# Altium footprint library National Semiconductor Footprints.PcbLib: 194 footprints (part 1 of 13)
Each footprint in its own frame and in the unit in brackets; x right, y up, seen from the top. Pads: shape width x height; smd on the part's side, far side on the other; paste and mask are expansions set on the pad; w line width, h text height; cw(c..) or ccw(c..) is an arc to the next point about the centre after c.
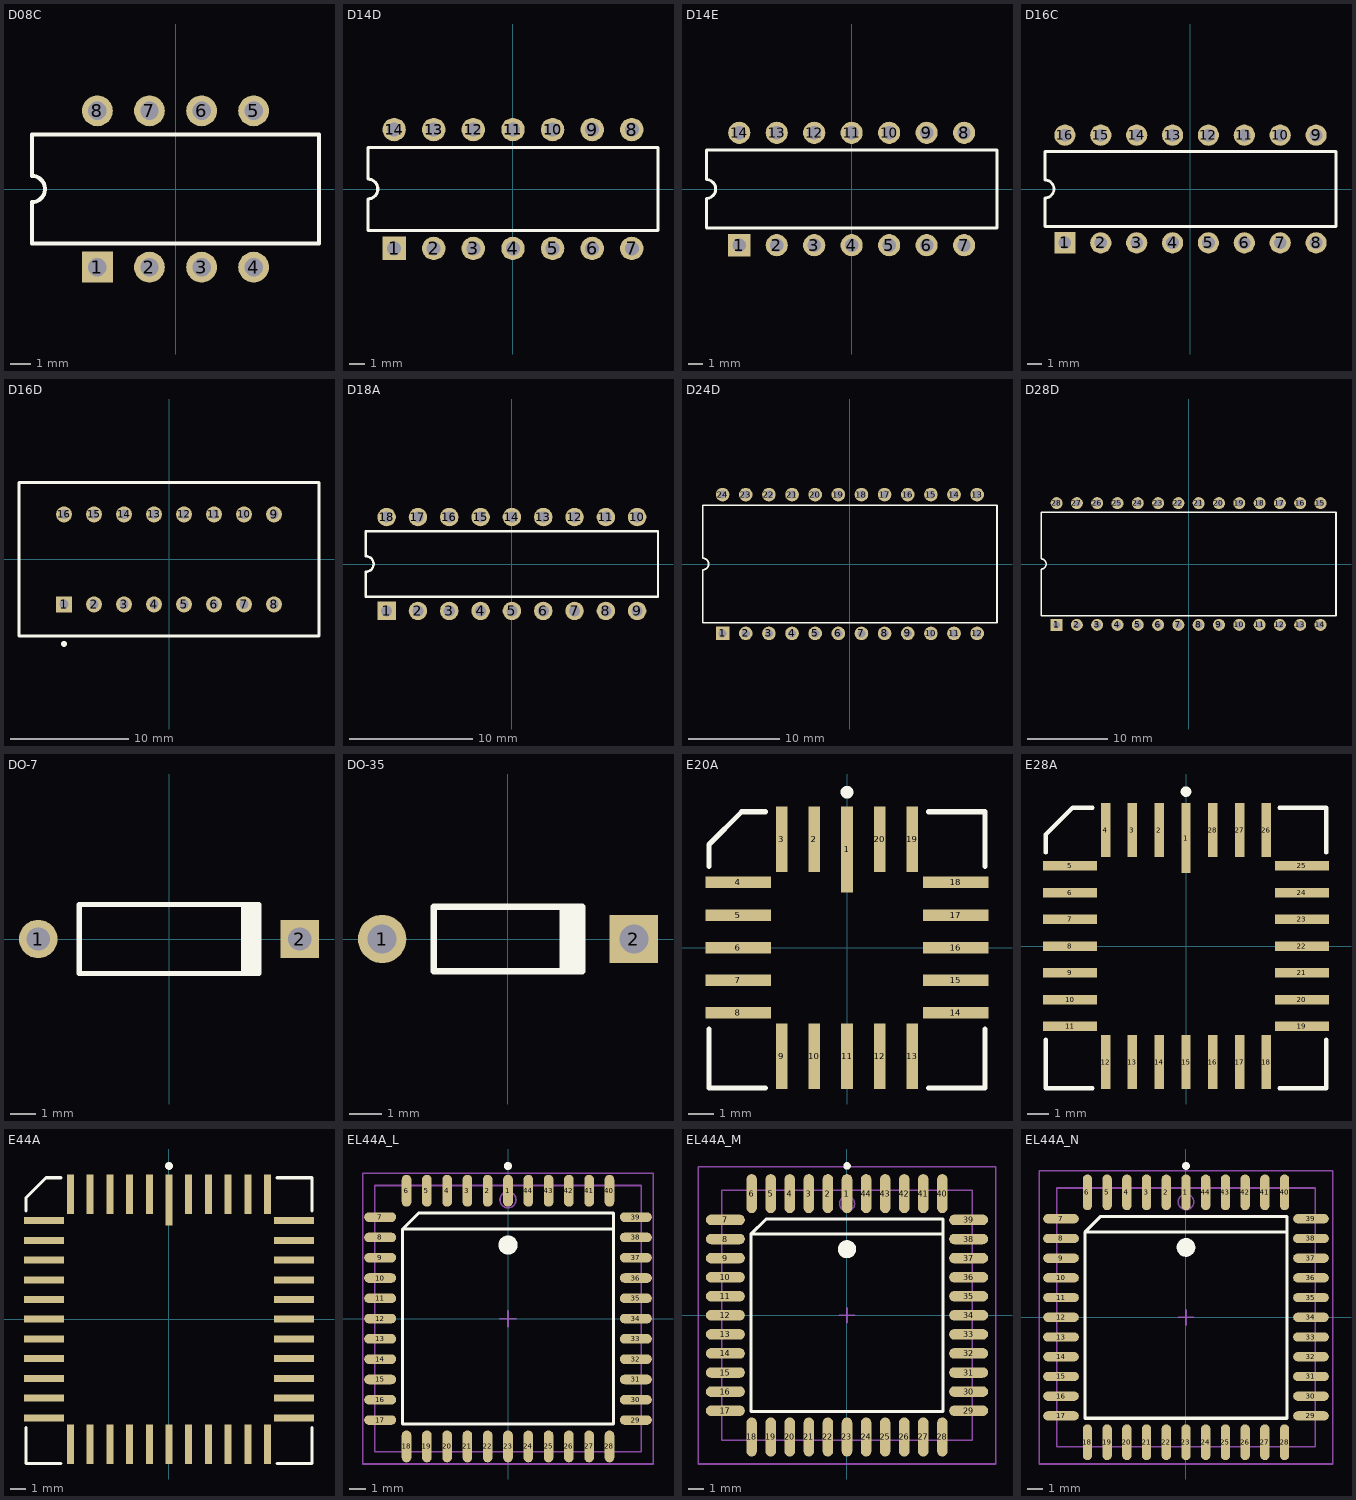
[diagram p0: the footprints below, top view; thin cyan lines are the x and y axes]

## D08C [mm] "DIP; 8 Leads; Row Spacing 7.62 mm; Pitch 2.54 mm"
height 5.33
pads (8):
  rect 1.5x1.5 hole 0.9: 1(-3.81,-3.81)
  round 1.5 hole 0.9: 2(-1.27,-3.81) 3(1.27,-3.81) 4(3.81,-3.81) 5(3.81,3.81) 6(1.27,3.81) 7(-1.27,3.81) 8(-3.81,3.81)
Top Overlay:
  lines w0.2: -7,-2.65 7,-2.65 7,2.65 -7,2.65 -7,0.635 cw(c-7,0) -7,-0.635 -7,-2.65

## D14D [mm] "DIP; 14 Leads; Row Spacing 7.62 mm; Pitch 2.54 mm"
height 5.08
pads (14):
  rect 1.5x1.5 hole 0.9: 1(-7.62,-3.81)
  round 1.5 hole 0.9: 2(-5.08,-3.81) 3(-2.54,-3.81) 4(0,-3.81) 5(2.54,-3.81) 6(5.08,-3.81) 7(7.62,-3.81) 8(7.62,3.81) 9(5.08,3.81) 10(2.54,3.81) 11(0,3.81) 12(-2.54,3.81) 13(-5.08,3.81) 14(-7.62,3.81)
Top Overlay:
  lines w0.2: -9.3,-2.65 9.3,-2.65 9.3,2.65 -9.3,2.65 -9.3,0.635 cw(c-9.3,0) -9.3,-0.635 -9.3,-2.65

## D14E [mm] "DIP; 14 Leads; Row Spacing 7.62 mm; Pitch 2.54 mm"
height 5.08
pads (14):
  rect 1.5x1.5 hole 0.9: 1(-7.62,-3.81)
  round 1.5 hole 0.9: 2(-5.08,-3.81) 3(-2.54,-3.81) 4(0,-3.81) 5(2.54,-3.81) 6(5.08,-3.81) 7(7.62,-3.81) 8(7.62,3.81) 9(5.08,3.81) 10(2.54,3.81) 11(0,3.81) 12(-2.54,3.81) 13(-5.08,3.81) 14(-7.62,3.81)
Top Overlay:
  lines w0.2: -9.85,-2.65 -9.85,-0.635 ccw(c-9.85,0) -9.85,0.635 -9.85,2.65 9.85,2.65 9.85,-2.65 -9.85,-2.65

## D16C [mm] "DIP; 16 Leads; Row Spacing 7.62 mm; Pitch 2.54 mm"
height 4.57
pads (16):
  rect 1.5x1.5 hole 0.9: 1(-8.89,-3.81)
  round 1.5 hole 0.9: 2(-6.35,-3.81) 3(-3.81,-3.81) 4(-1.27,-3.81) 5(1.27,-3.81) 6(3.81,-3.81) 7(6.35,-3.81) 8(8.89,-3.81) 9(8.89,3.81) 10(6.35,3.81) 11(3.81,3.81) 12(1.27,3.81) 13(-1.27,3.81) 14(-3.81,3.81) 15(-6.35,3.81) 16(-8.89,3.81)
Top Overlay:
  lines w0.2: -10.3,-2.65 -10.3,-0.635 ccw(c-10.3,0) -10.3,0.635 -10.3,2.65 10.3,2.65 10.3,-2.65 -10.3,-2.65

## D16D [mm] "DIP; 16 Round Pins; Row Space 7.62 mm; Pitch 2.54 mm"
height 5.08
pads (16):
  rect 1.35x1.35 hole 0.8: 1(-8.89,-3.81)
  round 1.35 hole 0.8: 2(-6.35,-3.81) 3(-3.81,-3.81) 4(-1.27,-3.81) 5(1.27,-3.81) 6(3.81,-3.81) 7(6.35,-3.81) 8(8.89,-3.81) 9(8.89,3.81) 10(6.35,3.81) 11(3.81,3.81) 12(1.27,3.81) 13(-1.27,3.81) 14(-3.81,3.81) 15(-6.35,3.81) 16(-8.89,3.81)
Top Overlay:
  circle w0.25: c-8.89,-7.15 r0.125
  lines w0.25: -12.7,-6.5 -12.7,6.5 12.7,6.5 12.7,-6.5 -12.7,-6.5

## D18A [mm] "DIP; 18 Leads; Row Spacing 7.62 mm; Pitch 2.54 mm"
height 4.58
pads (18):
  rect 1.5x1.5 hole 0.9: 1(-10.16,-3.81)
  round 1.5 hole 0.9: 2(-7.62,-3.81) 3(-5.08,-3.81) 4(-2.54,-3.81) 5(0,-3.81) 6(2.54,-3.81) 7(5.08,-3.81) 8(7.62,-3.81) 9(10.16,-3.81) 10(10.16,3.81) 11(7.62,3.81) 12(5.08,3.81) 13(2.54,3.81) 14(0,3.81) 15(-2.54,3.81) 16(-5.08,3.81) 17(-7.62,3.81) 18(-10.16,3.81)
Top Overlay:
  lines w0.2: -11.85,-2.65 11.85,-2.65 11.85,2.65 -11.85,2.65 -11.85,0.635 cw(c-11.85,0) -11.85,-0.635 -11.85,-2.65

## D24D [mm] "DIP; 24 Leads; Row Spacing 15.24 mm; Pitch 2.54 mm"
height 5.72
pads (24):
  rect 1.5x1.5 hole 0.9: 1(-13.97,-7.62)
  round 1.5 hole 0.9: 2(-11.43,-7.62) 3(-8.89,-7.62) 4(-6.35,-7.62) 5(-3.81,-7.62) 6(-1.27,-7.62) 7(1.27,-7.62) 8(3.81,-7.62) 9(6.35,-7.62) 10(8.89,-7.62) 11(11.43,-7.62) 12(13.97,-7.62) 13(13.97,7.62) 14(11.43,7.62) 15(8.89,7.62) 16(6.35,7.62) 17(3.81,7.62) 18(1.27,7.62) 19(-1.27,7.62) 20(-3.81,7.62) 21(-6.35,7.62) 22(-8.89,7.62) 23(-11.43,7.62) 24(-13.97,7.62)
Top Overlay:
  lines w0.2: -16.15,-6.45 -16.15,-0.635 ccw(c-16.15,0) -16.15,0.635 -16.15,6.45 16.15,6.45 16.15,-6.45 -16.15,-6.45

## D28D [mm] "DIP; 28 Leads; Row Spacing 15.24 mm; Pitch 2.54 mm"
height 4.57
pads (28):
  rect 1.5x1.5 hole 0.9: 1(-16.51,-7.62)
  round 1.5 hole 0.9: 2(-13.97,-7.62) 3(-11.43,-7.62) 4(-8.89,-7.62) 5(-6.35,-7.62) 6(-3.81,-7.62) 7(-1.27,-7.62) 8(1.27,-7.62) 9(3.81,-7.62) 10(6.35,-7.62) 11(8.89,-7.62) 12(11.43,-7.62) 13(13.97,-7.62) 14(16.51,-7.62) 15(16.51,7.62) 16(13.97,7.62) 17(11.43,7.62) 18(8.89,7.62) 19(6.35,7.62) 20(3.81,7.62) 21(1.27,7.62) 22(-1.27,7.62) 23(-3.81,7.62) 24(-6.35,7.62) 25(-8.89,7.62) 26(-11.43,7.62) 27(-13.97,7.62) 28(-16.51,7.62)
Top Overlay:
  lines w0.2: -18.45,-6.45 -18.45,-0.635 ccw(c-18.45,0) -18.45,0.635 -18.45,6.45 18.45,6.45 18.45,-6.45 -18.45,-6.45

## DO-7 [mm] "Diode, Axial; Body 7 x 2.7 mm (LxDia. max), Lead Dia. 0.53 mm (max)"
height 2.7
pads (2):
  round 1.5 hole 0.9: 1(-5.1,0)
  rect 1.5x1.5 hole 0.9: 2(5.1,0)
Top Overlay:
  rectangle: 2.8,-1.35 3.6,1.35
  lines w0.2: 3.5,-1.35 -3.5,-1.35 -3.5,1.35 3.5,1.35

## DO-35 [mm] "Diode, Axial; Body 4.6 x 1.9 mm (LxDia. max), Lead Dia. 0.53 mm (max)"
height 2
pads (2):
  round 1.5 hole 0.9: 1(-3.9,0)
  rect 1.5x1.5 hole 0.9: 2(3.9,0)
Top Overlay:
  rectangle: 1.6,-1 2.4,1
  lines w0.2: 2.3,-1 -2.3,-1 -2.3,1 2.3,1

## E20A [mm] "Leadless Chip Carrier; 20 Terminals; Body 8.9 x 8.9 mm"
height 1.91
pads (20):
  rect 0.45x3.35 smd: 1(0,3.825)
  rect 0.45x2.55 smd: 2(-1.27,4.225) 3(-2.54,4.225) 9(-2.54,-4.225) 10(-1.27,-4.225) 11(0,-4.225) 12(1.27,-4.225) 13(2.54,-4.225) 19(2.54,4.225) 20(1.27,4.225)
  rect 2.55x0.45 smd: 4(-4.225,2.54) 5(-4.225,1.27) 6(-4.225,0) 7(-4.225,-1.27) 8(-4.225,-2.54) 14(4.225,-2.54) 15(4.225,-1.27) 16(4.225,0) 17(4.225,1.27) 18(4.225,2.54)
Top Overlay:
  circle w0.25: c0,6.05 r0.125
  lines w0.2: -5.375,-3.165 -5.375,-5.463 -3.165,-5.463 ; -5.375,3.165 -5.375,4.012 -4.1,5.288 -3.165,5.288 ; 3.165,-5.463 5.375,-5.463 5.375,-3.165 ; 3.165,5.288 5.375,5.288 5.375,3.165

## E28A [mm] "Leadless Chip Carrier; 28 Terminals; Body 11.4 x 11.4 mm"
height 1.87
pads (28):
  rect 0.45x3.3 smd: 1(0,5.125)
  rect 0.45x2.55 smd: 2(-1.27,5.5) 3(-2.54,5.5) 4(-3.81,5.5) 12(-3.81,-5.5) 13(-2.54,-5.5) 14(-1.27,-5.5) 15(0,-5.5) 16(1.27,-5.5) 17(2.54,-5.5) 18(3.81,-5.5) 26(3.81,5.5) 27(2.54,5.5) 28(1.27,5.5)
  rect 2.55x0.45 smd: 5(-5.5,3.81) 6(-5.5,2.54) 7(-5.5,1.27) 8(-5.5,0) 9(-5.5,-1.27) 10(-5.5,-2.54) 11(-5.5,-3.81) 19(5.5,-3.81) 20(5.5,-2.54) 21(5.5,-1.27) 22(5.5,0) 23(5.5,1.27) 24(5.5,2.54) 25(5.5,3.81)
Top Overlay:
  circle w0.25: c0,7.325 r0.125
  lines w0.2: -6.65,-4.435 -6.65,-6.737 -4.435,-6.737 ; -6.65,4.435 -6.65,5.288 -5.375,6.563 -4.435,6.562 ; 4.435,-6.737 6.65,-6.737 6.65,-4.435 ; 4.435,6.562 6.65,6.562 6.65,4.435

## E44A [mm] "Leadless Chip Carrier; 44 Terminals; Body 16.5 x 16.5 mm"
height 1.93
pads (44):
  rect 0.45x3.3 smd: 1(0,7.675)
  rect 0.45x2.55 smd: 2(-1.27,8.05) 3(-2.54,8.05) 4(-3.81,8.05) 5(-5.08,8.05) 6(-6.35,8.05) 18(-6.35,-8.05) 19(-5.08,-8.05) 20(-3.81,-8.05) 21(-2.54,-8.05) 22(-1.27,-8.05) 23(0,-8.05) 24(1.27,-8.05) 25(2.54,-8.05) 26(3.81,-8.05) 27(5.08,-8.05) 28(6.35,-8.05) 40(6.35,8.05) 41(5.08,8.05) 42(3.81,8.05) 43(2.54,8.05) 44(1.27,8.05)
  rect 2.55x0.45 smd: 7(-8.05,6.35) 8(-8.05,5.08) 9(-8.05,3.81) 10(-8.05,2.54) 11(-8.05,1.27) 12(-8.05,0) 13(-8.05,-1.27) 14(-8.05,-2.54) 15(-8.05,-3.81) 16(-8.05,-5.08) 17(-8.05,-6.35) 29(8.05,-6.35) 30(8.05,-5.08) 31(8.05,-3.81) 32(8.05,-2.54) 33(8.05,-1.27) 34(8.05,0) 35(8.05,1.27) 36(8.05,2.54) 37(8.05,3.81) 38(8.05,5.08) 39(8.05,6.35)
Top Overlay:
  circle w0.25: c0,9.875 r0.125
  lines w0.2: -9.2,-6.975 -9.2,-9.287 -6.975,-9.287 ; -9.2,6.975 -9.2,7.838 -7.925,9.113 -6.975,9.112 ; 6.975,-9.287 9.2,-9.287 9.2,-6.975 ; 6.975,9.112 9.2,9.112 9.2,6.975

## EL44A_L [mm] "44-Pin Leaded Chip Carrier 1.27 mm Pitch, IPC High Density"
height 3.56
pads (44):
  oval 0.6x2 smd: 1(0,8) 2(-1.27,8) 3(-2.54,8) 4(-3.81,8) 5(-5.08,8) 6(-6.35,8) 18(-6.35,-8) 19(-5.08,-8) 20(-3.81,-8) 21(-2.54,-8) 22(-1.27,-8) 23(0,-8) 24(1.27,-8) 25(2.54,-8) 26(3.81,-8) 27(5.08,-8) 28(6.35,-8) 40(6.35,8) 41(5.08,8) 42(3.81,8) 43(2.54,8) 44(1.27,8)
  oval 2x0.6 smd: 7(-8,6.35) 8(-8,5.08) 9(-8,3.81) 10(-8,2.54) 11(-8,1.27) 12(-8,0) 13(-8,-1.27) 14(-8,-2.54) 15(-8,-3.81) 16(-8,-5.08) 17(-8,-6.35) 29(8,-6.35) 30(8,-5.08) 31(8,-3.81) 32(8,-2.54) 33(8,-1.27) 34(8,0) 35(8,1.27) 36(8,2.54) 37(8,3.81) 38(8,5.08) 39(8,6.35)
Top Overlay:
  circle w0.25: c0,9.55 r0.125
  circle w0.6: c0,4.6 r0.3
  lines w0.2: 6.6,5.6 -6.6,5.6 ; -6.6,5.6 -5.6,6.6 6.6,6.6 6.6,-6.6 -6.6,-6.6 -6.6,5.6
Mechanical 13:
  circle w0.1: c0,7.43 r0.5
  lines w0.1: -8.33,-8.33 -8.33,8.33 8.33,8.33 8.33,-8.33 -8.33,-8.33
Mechanical 15:
  lines w0.1: -0.5,0 0.5,0 ; 0,-0.5 0,0.5 ; -9.1,-9.1 -9.1,9.1 9.1,9.1 9.1,-9.1 -9.1,-9.1
3D body: height 3.56, standoff 0, extent -8.33,-8.33 8.33,8.33

## EL44A_M [mm] "44-Pin Leaded Chip Carrier 1.27 mm Pitch, IPC Low Density"
height 3.56
pads (44):
  oval 0.7x2.6 smd: 1(0,8.1) 2(-1.27,8.1) 3(-2.54,8.1) 4(-3.81,8.1) 5(-5.08,8.1) 6(-6.35,8.1) 18(-6.35,-8.1) 19(-5.08,-8.1) 20(-3.81,-8.1) 21(-2.54,-8.1) 22(-1.27,-8.1) 23(0,-8.1) 24(1.27,-8.1) 25(2.54,-8.1) 26(3.81,-8.1) 27(5.08,-8.1) 28(6.35,-8.1) 40(6.35,8.1) 41(5.08,8.1) 42(3.81,8.1) 43(2.54,8.1) 44(1.27,8.1)
  oval 2.6x0.7 smd: 7(-8.1,6.35) 8(-8.1,5.08) 9(-8.1,3.81) 10(-8.1,2.54) 11(-8.1,1.27) 12(-8.1,0) 13(-8.1,-1.27) 14(-8.1,-2.54) 15(-8.1,-3.81) 16(-8.1,-5.08) 17(-8.1,-6.35) 29(8.1,-6.35) 30(8.1,-5.08) 31(8.1,-3.81) 32(8.1,-2.54) 33(8.1,-1.27) 34(8.1,0) 35(8.1,1.27) 36(8.1,2.54) 37(8.1,3.81) 38(8.1,5.08) 39(8.1,6.35)
Top Overlay:
  circle w0.25: c0,9.95 r0.125
  circle w0.6: c0,4.4 r0.3
  lines w0.2: 6.4,5.4 -6.4,5.4 ; -6.4,5.4 -5.4,6.4 6.4,6.4 6.4,-6.4 -6.4,-6.4 -6.4,5.4
Mechanical 13:
  circle w0.1: c0,7.43 r0.5
  lines w0.1: -8.33,-8.33 -8.33,8.33 8.33,8.33 8.33,-8.33 -8.33,-8.33
Mechanical 15:
  lines w0.1: -0.5,0 0.5,0 ; 0,-0.5 0,0.5 ; -9.9,-9.9 -9.9,9.9 9.9,9.9 9.9,-9.9 -9.9,-9.9
3D body: height 3.56, standoff 0, extent -8.33,-8.33 8.33,8.33

## EL44A_N [mm] "44-Pin Leaded Chip Carrier 1.27 mm Pitch, IPC Medium Density"
height 3.56
pads (44):
  oval 0.6x2.3 smd: 1(0,8.05) 2(-1.27,8.05) 3(-2.54,8.05) 4(-3.81,8.05) 5(-5.08,8.05) 6(-6.35,8.05) 18(-6.35,-8.05) 19(-5.08,-8.05) 20(-3.81,-8.05) 21(-2.54,-8.05) 22(-1.27,-8.05) 23(0,-8.05) 24(1.27,-8.05) 25(2.54,-8.05) 26(3.81,-8.05) 27(5.08,-8.05) 28(6.35,-8.05) 40(6.35,8.05) 41(5.08,8.05) 42(3.81,8.05) 43(2.54,8.05) 44(1.27,8.05)
  oval 2.3x0.6 smd: 7(-8.05,6.35) 8(-8.05,5.08) 9(-8.05,3.81) 10(-8.05,2.54) 11(-8.05,1.27) 12(-8.05,0) 13(-8.05,-1.27) 14(-8.05,-2.54) 15(-8.05,-3.81) 16(-8.05,-5.08) 17(-8.05,-6.35) 29(8.05,-6.35) 30(8.05,-5.08) 31(8.05,-3.81) 32(8.05,-2.54) 33(8.05,-1.27) 34(8.05,0) 35(8.05,1.27) 36(8.05,2.54) 37(8.05,3.81) 38(8.05,5.08) 39(8.05,6.35)
Top Overlay:
  circle w0.25: c0,9.75 r0.125
  circle w0.6: c0,4.5 r0.3
  lines w0.2: 6.5,5.5 -6.5,5.5 ; -6.5,5.5 -5.5,6.5 6.5,6.5 6.5,-6.5 -6.5,-6.5 -6.5,5.5
Mechanical 13:
  circle w0.1: c0,7.43 r0.5
  lines w0.1: -8.33,-8.33 -8.33,8.33 8.33,8.33 8.33,-8.33 -8.33,-8.33
Mechanical 15:
  lines w0.1: -0.5,0 0.5,0 ; 0,-0.5 0,0.5 ; -9.45,-9.45 -9.45,9.45 9.45,9.45 9.45,-9.45 -9.45,-9.45
3D body: height 3.56, standoff 0, extent -8.33,-8.33 8.33,8.33